# Altium schematic symbol library RMCF0805FT40K2.SchLib: 1 symbol
Pins are listed as number, name and electrical type; pins without a type are passive.

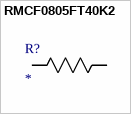
[diagram p0: symbol RMCF0805FT40K2]

## RMCF0805FT40K2
designator R?
No Description Available; Mfr_Name: Stackpole International
footprint STA_RMCF0805_STP-L
pins: 1, 2